# Altium schematic symbol library Molex_0705430001.SchLib: 1 symbol
Pins are listed as number, name and electrical type; pins without a type are passive.

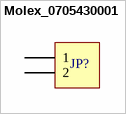
[diagram p0: symbol Molex_0705430001]

## Molex_0705430001
designator JP?
Header, 2-Pin; Manufacturer: Molex; PartNumber: 0705430001; LatestRevisionDate: 17-Jul-2002; LatestRevisionNote: Re-released for DXP Platform.; Publisher: Altium Limited; Supplier 1: Digi-Key; Supplier Part Number 1: WM4800-ND
signal-integrity model Connector
footprint Molex_0705430001
pins: 1, 2